# Altium footprint library Library - Copy.PcbLib: 38 footprints (part 2 of 3)
Each footprint in its own frame and in the unit in brackets; x right, y up, seen from the top. Pads: shape width x height; smd on the part's side, far side on the other; paste and mask are expansions set on the pad; w line width, h text height; cw(c..) or ccw(c..) is an arc to the next point about the centre after c.
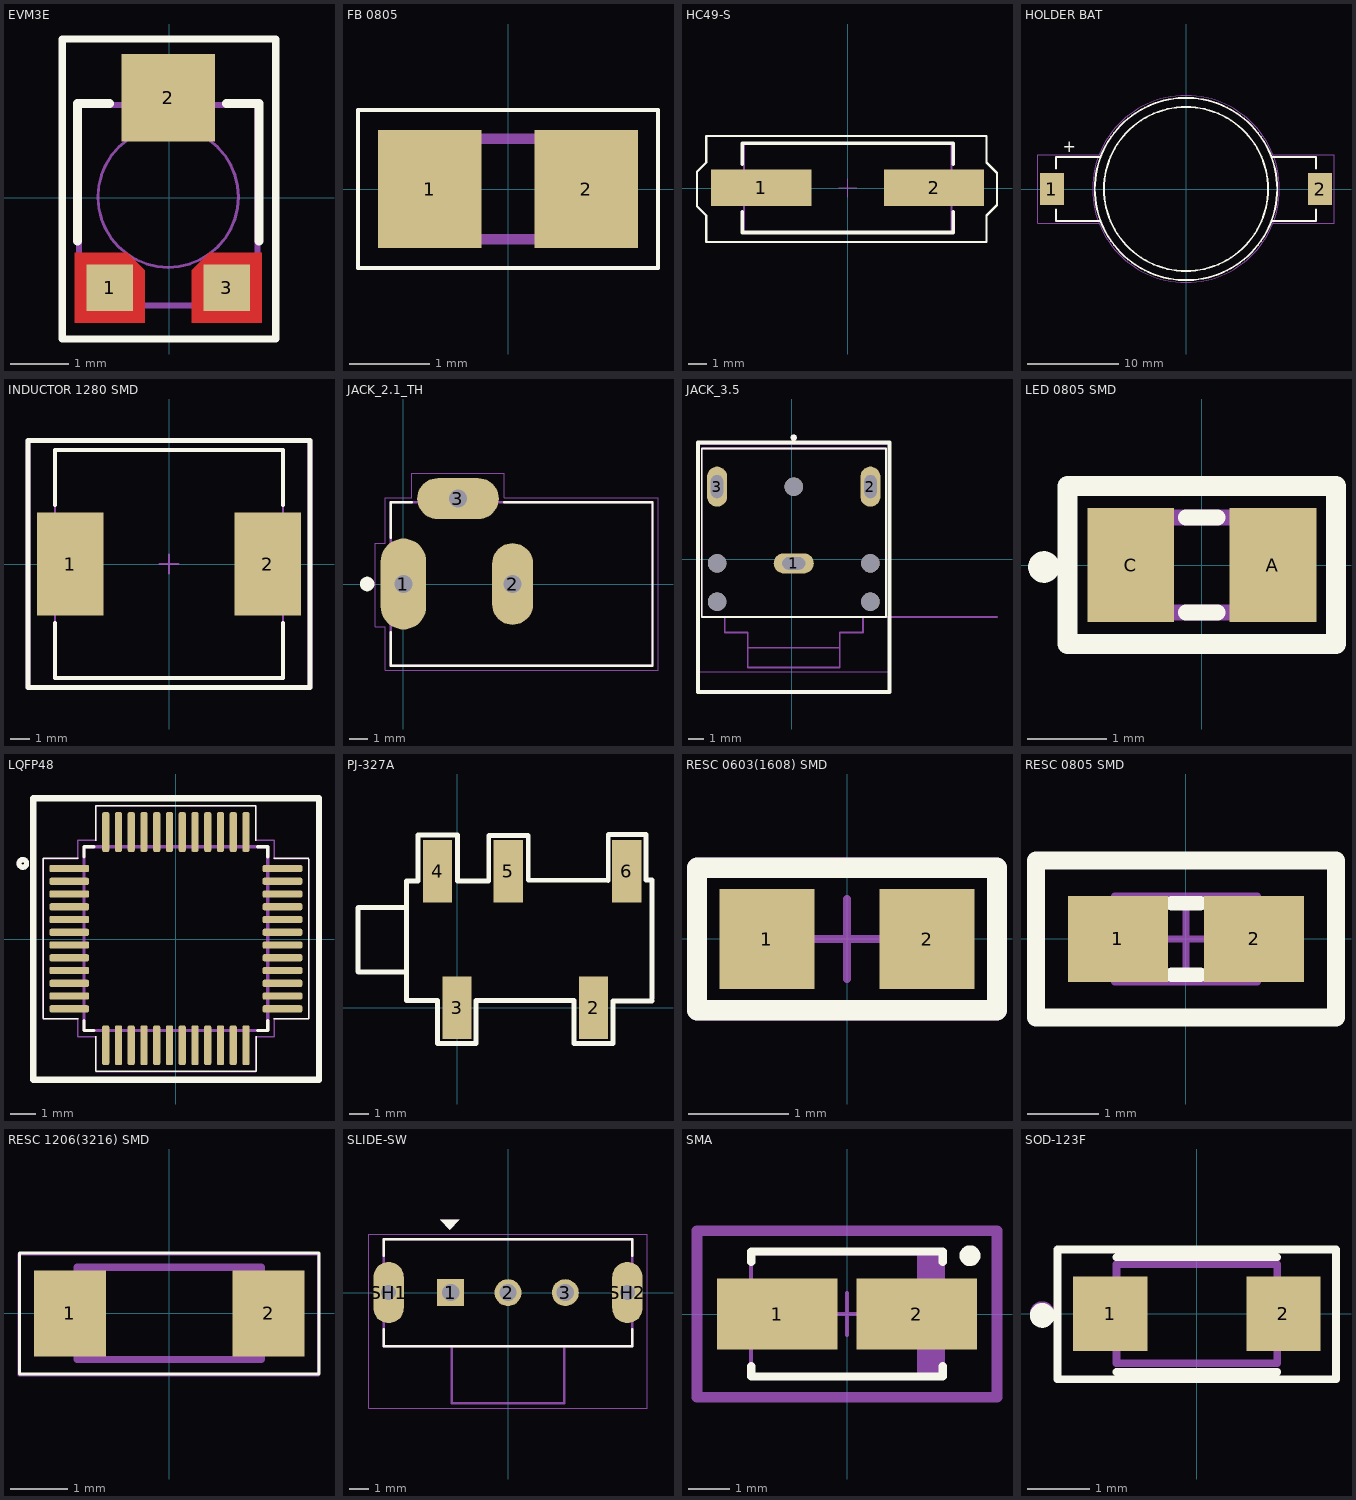
[diagram p1: the footprints below, top view; thin cyan lines are the x and y axes]

## EVM3E [mm]
pads (3):
  rect 0.8x0.8 smd paste-1 mask+0: 1(-1.014,-1.535) 3(0.986,-1.535)
  rect 1.6x1.5 smd: 2(-0.014,1.715)
Top Layer:
  region: 1.586,-2.135 0.386,-2.135 0.386,-1.235 0.686,-0.935 1.586,-0.935
  region: -0.414,-1.235 -0.414,-2.135 -1.614,-2.135 -1.614,-0.935 -0.714,-0.935
Top Overlay:
  lines w0.127: -1.829,-2.413 -1.829,2.718 1.829,2.718 1.829,-2.413 -1.829,-2.413
  lines w0.152: -1.564,-0.735 -1.564,1.615 -1.014,1.615 ; 0.986,1.615 1.536,1.615 1.536,-0.735
Top Paste:
  region: 1.586,-2.135 0.386,-2.135 0.386,-1.235 0.686,-0.935 1.586,-0.935
  region: -0.414,-1.235 -0.414,-2.135 -1.614,-2.135 -1.614,-0.935 -0.714,-0.935
Top Solder:
  region: 1.686,-2.235 0.286,-2.235 0.286,-1.235 0.686,-0.835 1.686,-0.835
  region: -0.314,-1.235 -0.314,-2.235 -1.714,-2.235 -1.714,-0.835 -0.714,-0.835
Mechanical 13:
  circle w0.05: c-0.014,0.015 r1.202
  lines w0.05: -1.564,-1.835 -1.564,1.615 1.536,1.615 1.536,-1.835 -1.564,-1.835
Mechanical 15:
  lines w0.1: -1.538,-1.84 1.51,-1.84 1.51,1.589 -1.538,1.589 -1.538,-1.84
3D body "EVM3ESX50Bxx-Panasonic.STEP": height 1.62, standoff 0, extent -1.564,-2.094 1.536,1.706

## FB 0805 [mm]
pads (2):
  rect 1.285x1.47 smd: 1(-0.973,0) 2(0.973,0)
Top Overlay:
  lines w0.05: -1.865,-0.985 -1.865,0.985 1.865,0.985 1.865,-0.985 -1.865,-0.985
Mechanical 13:
  lines w0.127: -1,-0.625 1,-0.625 1,0.625 -1,0.625 -1,-0.625
Mechanical 15:
  lines w0.05: -1.865,-0.985 1.865,-0.985 1.865,0.985 -1.865,0.985 -1.865,-0.985
3D body "step_temp.STEP": height 1.1, standoff 0, extent -1,-0.625 1,0.625

## HC49-S [mm]
pads (2):
  rect 5.5x2 smd: 1(-4.75,0.025) 2(4.75,0.025)
Top Overlay:
  lines w0.127: -8.28,-0.986 -7.776,-1.49 -7.776,-2.946 7.624,-2.946 7.624,-1.49 8.204,-0.91 8.204,0.842 7.624,1.422 7.624,2.879 -7.776,2.879 -7.776,1.422 -8.28,0.918 -8.28,-0.986
  lines w0.2: -5.8,-1.275 -5.8,-2.425 5.8,-2.425 5.8,-1.275 ; -5.8,1.325 -5.8,2.475 5.8,2.475 5.8,1.325
Mechanical 11:
  lines w0.1: -5.7,-2.425 -5.7,2.475 5.7,2.475 5.7,-2.425 -5.7,-2.425
  text ".Designator" at -2.5,-0.725 h1.5
Mechanical 13:
  lines w0.1: -5.7,-2.425 5.7,-2.425 5.7,2.475 -5.7,2.475 -5.7,-2.425
Mechanical 15:
  lines w0.05: -0.5,0.025 0.5,0.025 ; 0,-0.475 0,0.525
3D body "FrqXTAL_HC49-4HSMX.stp": height 4.3, standoff 0, extent -6.7,-2.424 6.7,2.476

## HOLDER BAT [mm]
pads (2):
  rect 2.6x3.5 smd paste+0 mask+0.102: 1(-14.7,0) 2(14.7,0)
Top Overlay:
  circle w0.2: c0,0 r10
  circle w0.2: c0,0 r9
  lines w0.2: -14.25,-2.25 -14.25,-3.5 -9.5,-3.5 ; -14.25,2.25 -14.25,3.5 -9.5,3.5 ; 9.5,-3.5 14.25,-3.5 14.25,-2.25 ; 9.5,3.5 14.25,3.5 14.25,2.25
  text "+" at -13.521,4.006 h1.27
Mechanical 15:
  circle w0.05: c0,0 r10.25
  lines w0.05: -9.5,-3.75 -16.25,-3.75 -16.25,3.75 -9.5,3.75 ; 9.5,-3.75 16.25,-3.75 16.25,3.75 9.5,3.75
3D body "BU2032SM-JJ-GTR--3DModel-STEP-1.STEP": height 5.3, standoff 0, extent -15.85,-10 15.85,10

## INDUCTOR 1280 SMD [mm] "Precision Wire Wound Inductor, 2-Leads, Body 12.00x12.00mm, IPC Low Density"
height 8
pads (2):
  rect 3.5x5.4 smd: 1(-5.2,0) 2(5.2,0)
Top Overlay:
  lines w0.2: -6,-3.1 -6,-6 6,-6 6,-3.1 ; -6,3.1 -6,6 6,6 6,3.1
  lines w0.254: -7.425,-6.5 -7.425,6.5 7.425,6.5 7.425,-6.5 -7.425,-6.5
Top Courtyard:
  lines w0.1: -0.5,0 0.5,0 ; 0,-0.5 0,0.5
  lines w0.254: -7.425,-6.5 -7.425,6.5 7.425,6.5 7.425,-6.5 -7.425,-6.5
Top Assembly:
  lines w0.1: -6,-6 -6,6 6,6 6,-6 -6,-6
3D body "INDUCTOR 1280 SMD.step": height 8.1, standoff 0, extent -6.1,-6 6.1,6

## JACK_2.1_TH [mm]
pads (3):
  oval 2.5x5 hole 1 square: 1(0,0)
  oval 2.25x4.5 hole 1 square: 2(6,0)
  oval 4.5x2.25 hole 1 square: 3(3,4.7)
Top Overlay:
  circle w0.4: c-2,0 r0.2
  lines w0.127: -0.7,-2.65 -0.7,-4.5 13.7,-4.5 13.7,4.5 5.55,4.5 ; -0.7,2.55 -0.7,4.5 0.45,4.5
Mechanical 13:
  lines w0.127: -0.7,-4.5 13.7,-4.5 13.7,4.5 -0.7,4.5 -0.7,-4.5
Mechanical 15:
  lines w0.05: -1.55,-2.35 -1.55,2.25 -1,2.25 -1,4.75 0.45,4.75 0.45,6.1 5.55,6.1 5.55,4.75 14,4.75 14,-4.75 -1,-4.75 -1,-2.35 -1.55,-2.35
3D body "step_temp.STEP": height 12.12, standoff -2.37, extent -0.889,-4.573 13.511,4.827

## JACK_3.5 [mm]
pads (8):
  oval 2.616x1.308 hole 0.8 slot 1.5 at 0 deg: 1(0.127,-0.254)
  oval 1.308x2.616 hole 0.8 slot 1.5 at 90 deg: 2(5.127,4.746) 3(-4.873,4.746)
  round 1.2 hole 1.2 unplated: ""(-4.873,-2.754) ""(-4.873,-0.254) ""(0.127,4.746) ""(5.127,-2.754) ""(5.127,-0.254)
Top Overlay:
  circle w0.2: c0.127,7.946 r0.1
  lines w0.127: -5.873,-3.754 6.127,-3.754 6.127,7.246 -5.873,7.246 -5.873,-3.754
  lines w0.254: -6.123,-8.636 -6.123,7.623 6.377,7.623 6.377,-8.636 ; -6.123,-8.633 6.377,-8.633
Mechanical 13:
  circle w0.2: c0.127,7.946 r0.1
  lines w0.127: 13.377,-3.754 6.127,-3.754 ; -4.373,-3.754 -4.373,-4.754 -2.873,-4.754 -2.873,-5.754 ; -4.373,-3.754 4.627,-3.754 ; -4.373,-3.754 -5.873,-3.754 -5.873,7.246 6.127,7.246 6.127,-3.754 ; -2.873,-5.754 3.127,-5.754 ; -2.873,-5.754 -2.873,-7.054 3.127,-7.054 3.127,-5.754 ; 3.127,-5.754 3.127,-4.754 4.627,-4.754 4.627,-3.754 ; 4.627,-3.754 6.127,-3.754
  text "PCB EDGE" at 7.127,-3.504 h0.81
Mechanical 15:
  lines w0.05: -6.123,-7.304 -6.123,7.496 6.377,7.496 6.377,-7.304 -6.123,-7.304
3D body "SJ1-3523N--3DModel-STEP-1.STEP": height 6.01, standoff -2.5, extent -5.873,-7.07 6.127,7.23

## LED 0805 SMD [mm]
pads (2):
  rect 1.1x1.45 smd: A(0.9,0) C(-0.9,0)
Top Overlay:
  circle w0.2: c-2,-0.025 r0.1
  lines w0.2: -0.2,-0.6 0.2,-0.6 ; -0.2,0.6 0.2,0.6
  lines w0.254: -1.7,-1 -1.7,1 1.7,1 1.7,-1 -1.7,-1
Mechanical 13:
  region: -0.5,-0.6 -1,-0.6 -1,0.6 -0.5,0.6
  region: 1,-0.6 0.5,-0.6 0.5,0.6 1,0.6
  lines w0.2: -1,-0.6 1,-0.6 1,0.6 -1,0.6 -1,-0.6
Mechanical 15:
  lines w0.05: -1.725,-0.975 1.675,-0.975 1.675,1.025 -1.725,1.025 -1.725,-0.975
3D body "step_temp.STEP": height 0.7, standoff 0, extent -1,-0.625 1,0.625

## LQFP48 [mm]
pads (48):
  rrect50% 1.56x0.28 smd: 1(-4.18,2.775) 2(-4.18,2.275) 3(-4.18,1.775) 4(-4.18,1.275) 5(-4.18,0.775) 6(-4.18,0.275) 7(-4.18,-0.225) 8(-4.18,-0.725) 9(-4.18,-1.225) 10(-4.18,-1.725) 11(-4.18,-2.225) 12(-4.18,-2.725) 25(4.18,-2.725) 26(4.18,-2.225) 27(4.18,-1.725) 28(4.18,-1.225) 29(4.18,-0.725) 30(4.18,-0.225) 31(4.18,0.275) 32(4.18,0.775) 33(4.18,1.275) 34(4.18,1.775) 35(4.18,2.275) 36(4.18,2.775)
  rrect50% 0.28x1.56 smd: 13(-2.75,-4.155) 14(-2.25,-4.155) 15(-1.75,-4.155) 16(-1.25,-4.155) 17(-0.75,-4.155) 18(-0.25,-4.155) 19(0.25,-4.155) 20(0.75,-4.155) 21(1.25,-4.155) 22(1.75,-4.155) 23(2.25,-4.155) 24(2.75,-4.155) 37(2.75,4.205) 38(2.25,4.205) 39(1.75,4.205) 40(1.25,4.205) 41(0.75,4.205) 42(0.25,4.205) 43(-0.25,4.205) 44(-0.75,4.205) 45(-1.25,4.205) 46(-1.75,4.205) 47(-2.25,4.205) 48(-2.75,4.205)
Top Overlay:
  circle w0.2: c-6,2.975 r0.15
  lines w0.05: -5.207,-3.099 -5.207,3.175 -3.835,3.175 ; -5.206,-3.105 -3.834,-3.105 ; -3.15,-5.182 -3.15,-3.81 ; -3.15,3.861 -3.15,5.232 3.124,5.232 3.124,3.861 ; -3.124,-5.182 3.15,-5.182 3.15,-3.81 ; 3.835,-3.124 5.207,-3.124 5.207,3.15 ; 3.835,3.175 5.207,3.175
  lines w0.127: -3.6,-3.185 -3.6,-3.575 -3.21,-3.575 ; -3.6,3.235 -3.6,3.625 -3.21,3.625 ; 3.21,-3.575 3.6,-3.575 3.6,-3.185 ; 3.21,3.625 3.6,3.625 3.6,3.235
  lines w0.254: 5.613,5.512 5.613,-5.512 -5.588,-5.512 -5.588,5.537 5.613,5.537
Mechanical 13:
  circle w0.2: c-6,2.975 r0.15
  lines w0.127: -3.6,-3.575 -3.6,3.625 3.6,3.625 3.6,-3.575 -3.6,-3.575
Mechanical 15:
  lines w0.05: -5.21,-3.115 -5.21,3.165 -3.85,3.165 -3.85,3.875 -3.14,3.875 -3.14,5.235 3.14,5.235 3.14,3.875 3.85,3.875 3.85,3.165 5.21,3.165 5.21,-3.115 3.85,-3.115 3.85,-3.825 3.14,-3.825 3.14,-5.185 -3.14,-5.185 -3.14,-3.825 -3.85,-3.825 -3.85,-3.115 -5.21,-3.115
3D body "step_temp.STEP": height 1.6, standoff 0, extent -4.5,-4.475 4.5,4.525

## PJ-327A [mm]
pads (5):
  rect 1.5x3.2 smd: 2(7,0) 3(0,0) 4(-1,7) 5(2.625,7) 6(8.7,7)
Top Overlay:
  lines w0.254: -2.634,1.823 -5.052,1.823 -5.075,1.846 -5.075,5.125 -5.05,5.15 -2.6,5.15 ; 9.996,0.354 8,0.354 8,-1.825 6,-1.825 6,0.375 0.975,0.375 0.975,-1.825 -1,-1.825 -1,0.381 -2.6,0.381 -2.6,6.5 -2,6.5 -2,8.85 0.025,8.85 0.025,6.508 1.625,6.509 1.625,8.825 3.65,8.825 3.65,6.539 7.75,6.523 7.75,8.875 9.675,8.875 9.675,6.547 9.996,6.547 9.996,6.035 9.996,0.479
3D body "PJ-327A.step": height 4.8, standoff -0.7, extent -4.575,-1.375 9.725,8.225

## RESC 0603(1608) SMD [mm] "Chip Resistor 0603"
height 0.55
pads (2):
  rect 0.95x1 smd: 1(-0.8,0) 2(0.8,0)
Top Overlay:
  lines w0.203: -1.499,-0.711 -1.499,0.711 1.499,0.711 1.499,-0.711 -1.499,-0.711
Mechanical 1:
  lines w0.203: -1.499,-0.711 -1.499,0.711 1.499,0.711 1.499,-0.711 -1.499,-0.711
Top Courtyard:
  lines w0.203: -1.499,-0.711 -1.499,0.711 1.499,0.711 1.499,-0.711 -1.499,-0.711
Top Assembly:
  text ".Designator" at 0,0.188 h1
Top Component Center:
  lines w0.076: -0.4,0 0.4,0 ; 0,-0.4 0,0.4
3D body "STD(0603) M(1608).STEP": height 0.45, standoff 0, extent -0.8,-0.4 0.8,0.4

## RESC 0805 SMD [mm]
height 0.5
pads (2):
  rect 1.4x1.2 smd: 1(-0.955,0) 2(0.955,0)
Top Overlay:
  lines w0.2: -0.2,-0.5 0.2,-0.5 ; -0.2,0.5 0.2,0.5
  lines w0.254: -2.1,-1.1 -2.1,1.1 2.1,1.1 2.1,-1.1 -2.1,-1.1
Top Courtyard:
  lines w0.05: -2.1,-1.1 -2.1,1.1 2.1,1.1 2.1,-1.1 -2.1,-1.1
  lines w0.1: -0.5,0 0.5,0 ; 0,-0.5 0,0.5
Top Assembly:
  lines w0.1: -1,-0.6 -1,0.6 1,0.6 1,-0.6 -1,-0.6
3D body "RESC 0805 SMD .step": height 0.5, standoff 0, extent -1,-0.6 1,0.6

## RESC 1206(3216) SMD [mm]
pads (2):
  rect 1.25x1.5 smd: 1(-1.725,0) 2(1.725,0)
Top Overlay:
  lines w0.05: -2.6,-1.05 -2.6,1.05 2.6,1.05 2.6,-1.05 -2.6,-1.05
Mechanical 13:
  lines w0.127: -1.6,-0.8 1.6,-0.8 1.6,0.8 -1.6,0.8 -1.6,-0.8
Mechanical 15:
  lines w0.05: -2.606,-1.068 2.594,-1.068 2.594,1.032 -2.606,1.032 -2.606,-1.068
3D body "ERJ-U08F6800V.STEP": height 0.6, standoff 0, extent -1.652,-0.8 1.548,0.8

## SLIDE-SW [mm]
pads (5):
  rect 1.408x1.408 / inner round 1.408 / far side rect 1.408x1.408 hole 0.9 mask+0.102: 1(-3,0)
  round 1.408 hole 0.9 mask+0.102: 2(0,0) 3(3,0)
  oval 1.6x3.2 hole 0.8 square mask+0.102: SH1(-6.25,0) SH2(6.25,0)
Top Overlay:
  region: -3.556,3.81 -2.54,3.81 -3.048,3.302
  lines w0.127: -6.5,-1.92 -6.5,-2.8 -2.95,-2.8 2.95,-2.8 6.5,-2.8 6.5,-1.92 ; -6.5,1.92 -6.5,2.8 6.5,2.8 6.5,1.92
Mechanical 13:
  region: -3.556,3.81 -2.54,3.81 -3.048,3.302
  lines w0.127: -2.95,-2.8 2.95,-2.8 ; -2.95,-2.8 -6.5,-2.8 -6.5,2.8 6.5,2.8 6.5,-2.8 2.95,-2.8 ; -2.95,-2.8 -2.95,-5.8 2.95,-5.8 2.95,-2.8
Mechanical 15:
  lines w0.05: -7.3,-6.05 -7.3,3.05 7.3,3.05 7.3,-6.05 -7.3,-6.05
3D body "step_temp.STEP": height 6.04, standoff -2.96, extent -6.5,-5.842 6.5,2.758

## SMA [mm] "Molded Diode, 2-Leads, Body 4.30x2.61mm, IPC Low Density"
height 2.3
pads (2):
  rect 2.9x1.7 smd: 1(-1.675,0) 2(1.675,0)
Top Overlay:
  circle w0.25: c2.95,1.4 r0.125
  lines w0.2: -2.3,-1.25 -2.3,-1.5 2.3,-1.5 2.3,-1.25 ; -2.3,1.25 -2.3,1.5 2.3,1.5 2.3,1.25
Top Courtyard:
  lines w0.1: -0.5,0 0.5,0 ; 0,-0.5 0,0.5
  lines w0.254: -3.6,-2 -3.6,2 3.6,2 3.6,-2 -3.6,-2
Top Assembly:
  rectangle: 1.681,-1.46 2.3,1.46
  lines w0.1: -2.3,-1.46 -2.3,1.46 2.3,1.46 2.3,-1.46 -2.3,-1.46
3D body "SMA.step": height 2.3, standoff 0, extent -2.52,-1.46 2.52,1.46

## SOD-123F [mm]
pads (2):
  rect 1.2x1.2 smd paste-0.05: 1(-1.4,0) 2(1.4,0)
Top Overlay:
  circle w0.2: c-2.5,-0.027 r0.1
  lines w0.127: -1.3,-0.941 1.3,-0.941 ; -1.3,0.914 1.3,0.914 ; -2.25,-1.06 2.25,-1.06 2.25,1.04 -2.25,1.04 -2.25,-1.06
Mechanical 13:
  circle w0.2: c-2.5,0 r0.1
  lines w0.127: -1.3,-0.8 -1.3,0.8 1.3,0.8 1.3,-0.8 -1.3,-0.8
Mechanical 15:
  lines w0.05: -2.25,-1.05 -2.25,1.05 2.25,1.05 2.25,-1.05 -2.25,-1.05
3D body "step_temp.STEP": height 1.2, standoff 0, extent -1.75,-0.8 1.75,0.8